# EAGLE library part FM18W08 (library FM18W08)
The FM18W08 is a 32 K × 8 nonvolatile memory that reads and writes similar to a standard SRAM. A ferroelectric random access memory or F-RAM is nonvolatile, which means that data is retained after power is removed. It provides data retention for over 151 years while eliminating the reliability concerns, functional disadvantages, and system design complexities of battery-backed SRAM (BBSRAM). Fast write timing and high write endurance make the F-RAM superior to other types of memory. The FM18W08 operation is similar to that of other RAM devices and therefore, it can be used as a drop-in replacement for a standard SRAM in a system. Minimum read and write cycle times are equal. The F-RAM memory is nonvolatile due to its unique ferroelectric memory process. These features make the FM18W08 ideal for nonvolatile memory applications requiring frequent or rapid writes.
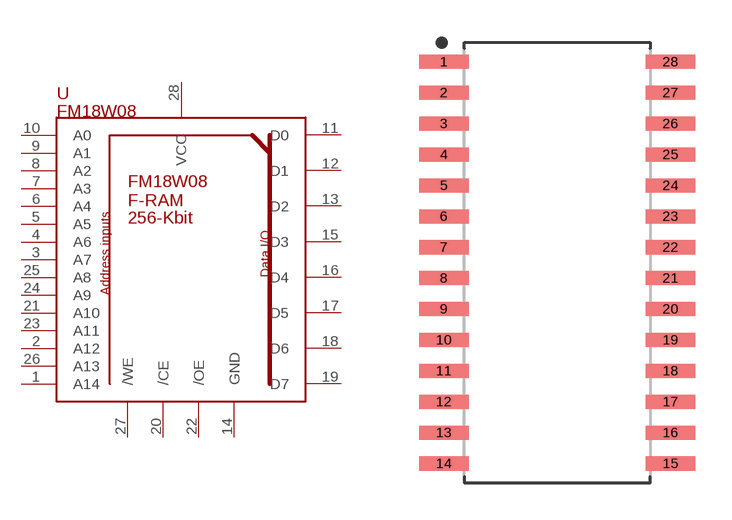
[diagram p0: symbol with the pads of SOIC127P1032X267-28N; footprint SOIC127P1032X267-28N]

Designator prefix -

## FM18W08  [SOIC127P1032X267-28N]
1  A14
2  A12
3  A7
4  A6
5  A5
6  A4
7  A3
8  A2
9  A1
10  A0
11  D0
12  D1
13  D2
14  GND
15  D3
16  D4
17  D5
18  D6
19  D7
20  /CE
21  A10
22  /OE
23  A11
24  A9
25  A8
26  A13
27  /WE
28  VCC

## Footprint SOIC127P1032X267-28N (pad centres in mm)
28-SOIC, 1.27 mm pitch, 10.32 mm span, 17.91 X 7.50 X 2.67 mm body 28-pin SOIC package with 1.27 mm pitch, 10.32 mm span with body size 17.91 X 7.50 X 2.67 mm
smd 2.042 x 0.577: 1 -4.654,8.255; 2 -4.654,6.985; 3 -4.654,5.715; 4 -4.654,4.445; 5 -4.654,3.175; 6 -4.654,1.905; 7 -4.654,0.635; 8 -4.654,-0.635; 9 -4.654,-1.905; 10 -4.654,-3.175; 11 -4.654,-4.445; 12 -4.654,-5.715; 13 -4.654,-6.985; 14 -4.654,-8.255; 15 4.654,-8.255; 16 4.654,-6.985; 17 4.654,-5.715; 18 4.654,-4.445; 19 4.654,-3.175; 20 4.654,-1.905; 21 4.654,-0.635; 22 4.654,0.635; 23 4.654,1.905; 24 4.654,3.175; 25 4.654,4.445; 26 4.654,5.715; 27 4.654,6.985; 28 4.654,8.255